# Altium integrated library Greenhouse.IntLib: 39 symbols
Pins are listed as number, name and electrical type; pins without a type are passive.

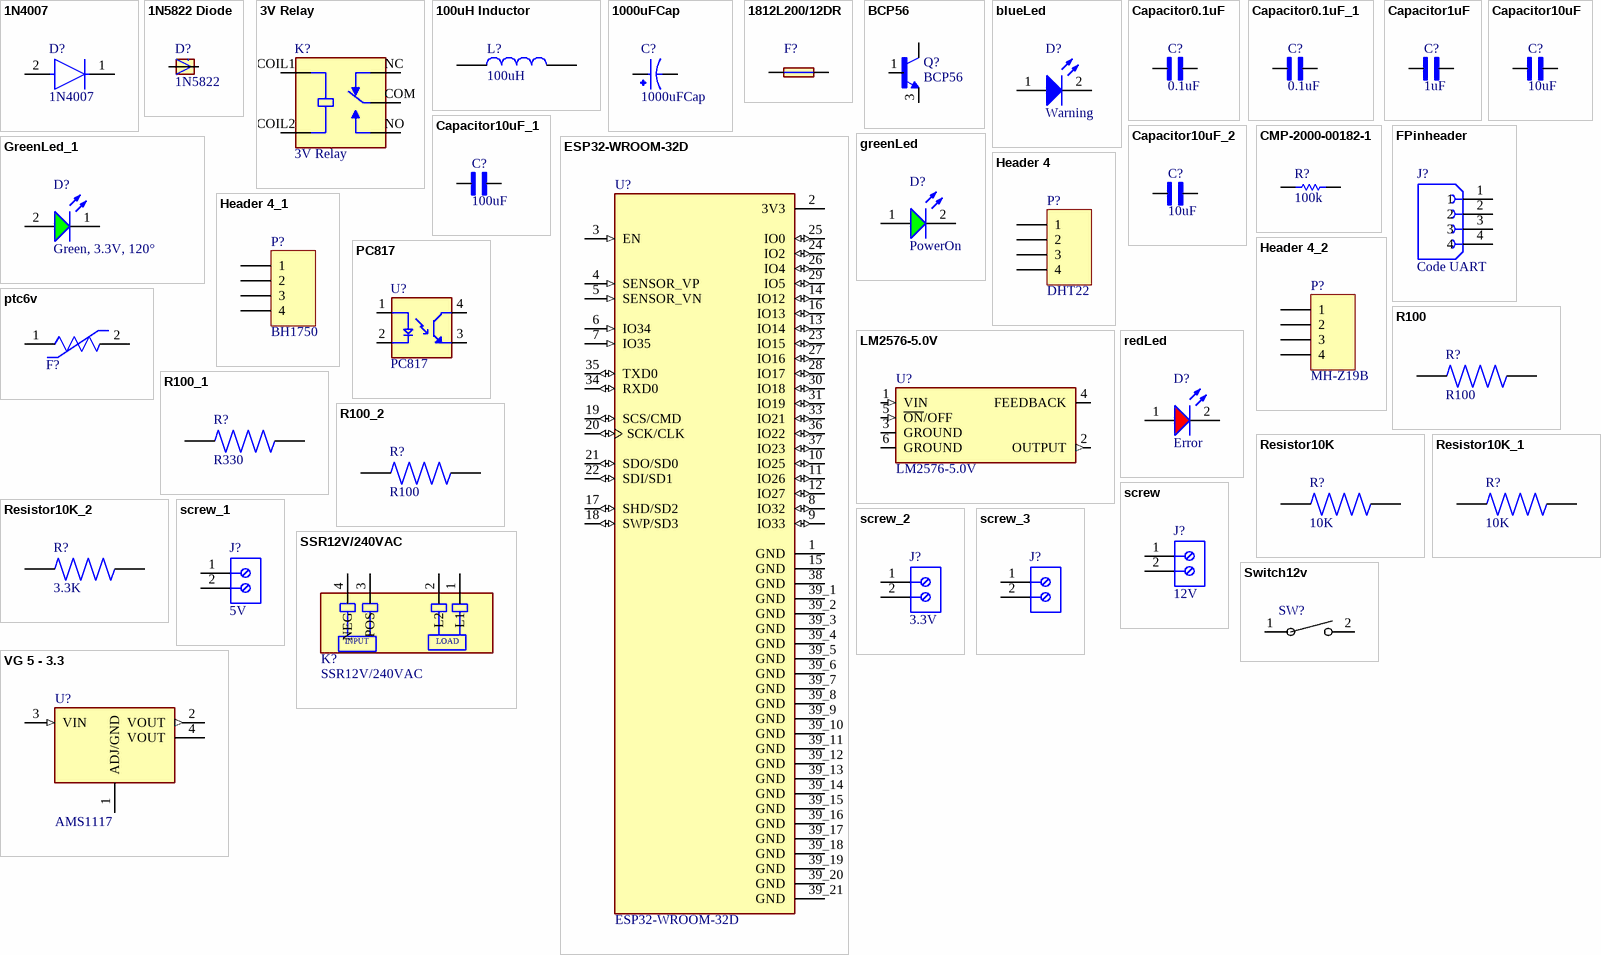
[diagram p0: symbols 1N4007 to VG 5 - 3.3]

## 1N4007
designator D?
Rectifier diode 1000 V 1 A DO-41, ,; Manufacturer: Diotec; Max Surge Forward Current: 27A; Forward Current: 1A; Max Junction Temp: +175°C; Reverse Voltage: 1000V; Value: 15pF; Peak Reverse Current: 5uA; Category: Diode; Temperature Range Low: -50°C; Automotive: No; Temperature: -50°C to +175°C; Lead Free: Yes; ComponentLink2Description: Datasheet; Max Repetitive Reverse Voltage: 1000V; ComponentLink2URL: https://datasheet.octopart.com/1N4007-Diotec-datasheet-62346875.pdf; Manufacturer Part Number: 1N4007; Device Class L3: Rectifier Diodes; Height: 2.8mm; Octopart: https://octopart.com/1n4007-diotec-4040411; Package: 1N4007; Temperature Range High: +175°C; Device Class L1: Discrete Semiconductors; Device Class L2: Diodes; RoHS: TRUE; Capacitance: 15pF; Ipc Land Pattern Name: DIOAD888W100L520D280
footprint 1N4007
pins: 1 C, 2 A

## 1N5822 Diode
designator D?, comment 1N5822
Schottky, DO-201, 40V, 3A, 150Â°C; MF: Diotec Semiconductor; SnapEDA_Link: https://www.snapeda.com/parts/1N5822/Diotec/view-part/?ref=snap; Package: DO-201 Diotec; Value: *; MP: 1N5822; Check_prices: https://www.snapeda.com/parts/1N5822/Diotec/view-part/?ref=eda
footprint 1N5822Diode
pins: A, C

## 3V Relay
designator K?
Relays General Purpose Non Latching 3VDC SPDT 10A (250VAC) Max 5PIN; MF: Songle Relay; MP: SRD-03VDC-SL-C; SnapEDA_Link: https://www.snapeda.com/parts/SRD-03VDC-SL-C/Songle+Relay/view-part/?ref=snap; Package: NON STANDARD-5 Songle Relay; Value: *; Check_prices: https://www.snapeda.com/parts/SRD-03VDC-SL-C/Songle+Relay/view-part/?ref=eda
footprint 3V Relay
pins: COIL1, COIL2, COM, NC, NO

## 100uH Inductor
designator L?, comment 100uH
Inductor with Inductance 100uH Tol.+/-20% Package 1212 (3030); MF: Murata; MP: LQH3NPH101MMEL; Availability: In Stock; SnapEDA_Link: https://www.snapeda.com/parts/LQH3NPH101MMEL/Murata/view-part/?ref=snap; Price: None; Check_prices: https://www.snapeda.com/parts/LQH3NPH101MMEL/Murata/view-part/?ref=eda; Package: 1212 Murata; Value: *; Purchase-URL: https://pricing.snapeda.com/search/part/LQH3NPH101MMEL/?ref=eda
footprint 100uH Inductor
pins: 1, 2

## 1000uFCap
designator C?
CAP ALUM 1000UF 20% 10V SMD; MP: EEE-FN1A102P; MF: Panasonic Electronic Components; Package: RADIAL-2 Panasonic; Availability: In Stock; Price: None; Check_prices: https://www.snapeda.com/parts/EEE-FN1A102P/Panasonic/view-part/6178528/?ref=eda; Purchase-URL: https://pricing.snapeda.com/search/part/EEE-FN1A102P/?ref=eda; Value: *; SnapEDA_Link: https://www.snapeda.com/parts/EEE-FN1A102P/Panasonic/view-part/6178528/?ref=snap
footprint 1000uFCap
pins: 1, 2

## 1812L200/12DR
designator F?  (value not drawn)
Polymeric PTC Resettable Fuse 12V 2A Ih Surface Mount 1812 (4532 Metric), Concave; MF: Littelfuse Inc.; Mouser-Purchase-URL: https://snapeda.com/shop?store=Mouser&id=1314296; Value: *; Availability: Warning; Price: None; SnapEDA_Link: https://www.snapeda.com/parts/1812L200/12DR/Littelfuse%20Inc./view-part/1314296/?ref=snap; Package: 1812 Littelfuse; MP: 1812L200/12DR
footprint FUSE_1812L200/12DR
pins: 1, 2

## BCP56
designator Q?
Bipolar (BJT) Transistor NPN 80 V 1 A 130MHz 1.5 W Surface Mount SOT-223 (TO-261); MF: ON Semiconductor; SnapEDA_Link: https://www.snapeda.com/parts/BCP56/Onsemi/view-part/?ref=snap; Package: TO-261-4 ON Semiconductor / Fairchild; Value: *; MP: BCP56; Check_prices: https://www.snapeda.com/parts/BCP56/Onsemi/view-part/?ref=eda
footprint BCP56
pins: 1 B, 2 C, 3 E, 4 C

## blueLed
designator D?, comment Warning
NexarPartId: 29717812; Test Current: 20mA; Forward Voltage: 3.2V; Wavelength: 470nm; Lens Size: 5mm; Lens Style: Circular, Diffused, Round; Forward Current: 100mA; Peak Wavelength: 465nm; Viewing Angle: 40°; Luminous Intensity: 500mcd; Max Reverse Voltage (DC): 5V; Color: Blue; Case/Package: Radial; Width: 5mm; Mount: Through Hole; Min Operating Temperature: -40°C; Length: 5mm; Height: 8.6mm; Max Operating Temperature: 85°C; Packaging: Bulk; RoHS: Compliant; REACH SVHC: Unknown; Dominant Wavelength: 470nm
footprint blueLed (THT Mono-color Round Color LED, 2-leads)
pins: 1 A, 2 K

## Capacitor0.1uF
designator C?, comment 0.1uF
SMD Capacitor X7S(EIA) with Capacitance: 0.10uF Tol. 10%. Rated Voltage: 16Vdc; MF: Murata; MP: GRM033C71C104KE14D; SnapEDA_Link: https://www.snapeda.com/parts/GRM033C71C104KE14D/Murata/view-part/?ref=snap; Package: 0603 Murata; Value: *; Check_prices: https://www.snapeda.com/parts/GRM033C71C104KE14D/Murata/view-part/?ref=eda
footprint Capacitor0.1uF
pins: 1, 2

## Capacitor0.1uF_1
designator C?, comment 0.1uF
SMD Capacitor X7S(EIA) with Capacitance: 0.10uF Tol. 10%. Rated Voltage: 16Vdc; MF: Murata; MP: GRM033C71C104KE14D; SnapEDA_Link: https://www.snapeda.com/parts/GRM033C71C104KE14D/Murata/view-part/?ref=snap; Package: 0603 Murata; Value: 0.1uF; Check_prices: https://www.snapeda.com/parts/GRM033C71C104KE14D/Murata/view-part/?ref=eda
footprint Capacitor0.1uF
pins: 1, 2

## Capacitor1uF
designator C?, comment 1uF
SMD capacitor X5R(EIA) with capacitance 1.0uF Tol.20%. Rated voltage 10Vdc 85C; MF: Murata; MP: GRM033R61A105ME44J; SnapEDA_Link: https://www.snapeda.com/parts/GRM033R61A105ME44J/Murata/view-part/?ref=snap; Package: 1005 Murata; Value: *; Check_prices: https://www.snapeda.com/parts/GRM033R61A105ME44J/Murata/view-part/?ref=eda
footprint CAPACITOR1UF
pins: 1, 2

## Capacitor10uF
designator C?, comment 10uF
SMD Capacitor X5R(EIA) with Capacitance: 10uF Tol. 10%. Rated Voltage: 10Vdc; MF: Murata; MP: GRM21BR61A106KE19K; SnapEDA_Link: https://www.snapeda.com/parts/GRM21BR61A106KE19K/Murata/view-part/?ref=snap; Package: 805-2 Murata; Value: *; Check_prices: https://www.snapeda.com/parts/GRM21BR61A106KE19K/Murata/view-part/?ref=eda
footprint Capacitor10uF
pins: 1, 2

## Capacitor10uF_1
designator C?, comment 100uF
SMD Capacitor X5R(EIA) with Capacitance: 10uF Tol. 10%. Rated Voltage: 10Vdc; MF: Murata; MP: GRM21BR61A106KE19K; SnapEDA_Link: https://www.snapeda.com/parts/GRM21BR61A106KE19K/Murata/view-part/?ref=snap; Package: 805-2 Murata; Value: *; Check_prices: https://www.snapeda.com/parts/GRM21BR61A106KE19K/Murata/view-part/?ref=eda
footprint Capacitor10uF
pins: 1, 2

## Capacitor10uF_2
designator C?, comment 10uF
SMD Capacitor X5R(EIA) with Capacitance: 10uF Tol. 10%. Rated Voltage: 10Vdc; MF: Murata; MP: GRM21BR61A106KE19K; SnapEDA_Link: https://www.snapeda.com/parts/GRM21BR61A106KE19K/Murata/view-part/?ref=snap; Package: 805-2 Murata; Value: 10uF; Check_prices: https://www.snapeda.com/parts/GRM21BR61A106KE19K/Murata/view-part/?ref=eda
footprint Capacitor10uF
pins: 1, 2

## CMP-2000-00182-1
designator R?, comment 100k
Part Number: ERJ-3EKF1003V; Manufacturer: Panasonic; Manufacturer Part Number: ERJ-3EKF1003V
footprint RESC1608X55X30ML15T15 (Chip Resistor, 2-Leads, Body 1.60x0.80mm, IPC Low Density)
footprint RESC1608X55X30NL15T15 (Chip Resistor, 2-Leads, Body 1.60x0.80mm, IPC Medium Density)
footprint RESC1608X55X30LL15T15 (Chip Resistor, 2-Leads, Body 1.60x0.80mm, IPC High Density)
pins: 1, 2
1 alternate drawing of the same symbol

## ESP32-WROOM-32D
designator U?
Bluetooth, WiFi 802.11b/g/n, Bluetooth v4.2 +EDR, Class 1, 2 and 3 Transceiver Module 2.4GHz ~ 2.5GHz Integrated; MF: Espressif Systems; SnapEDA_Link: https://www.snapeda.com/parts/ESP32-WROOM-32D/Espressif+Systems/view-part/?ref=snap; Package: Non Standard Espressif Systems; Value: *; MP: ESP32-WROOM-32D; Check_prices: https://www.snapeda.com/parts/ESP32-WROOM-32D/Espressif+Systems/view-part/?ref=eda
footprint ESP32-WROOM-32D
pins: 1 GND (power), 2 3V3 (power), 3 EN (in), 4 SENSOR_VP (in), 5 SENSOR_VN (in), 6 IO34 (in), 7 IO35 (in), 8 IO32 (io), 9 IO33 (io), 10 IO25 (io), 11 IO26 (io), 12 IO27 (io), 13 IO14 (io), 14 IO12 (io), 15 GND (power), 16 IO13 (io), 17 SHD/SD2 (io), 18 SWP/SD3 (io), 19 SCS/CMD (io), 20 SCK/CLK (io), 21 SDO/SD0 (io), 22 SDI/SD1 (io), 23 IO15 (io), 24 IO2 (io), 25 IO0 (io), 26 IO4 (io), 27 IO16 (io), 28 IO17 (io), 29 IO5 (io), 30 IO18 (io), 31 IO19 (io), 33 IO21 (io), 34 RXD0 (io), 35 TXD0 (io), 36 IO22 (io), 37 IO23 (io), 38 GND (power), 39_1 GND (power), 39_2 GND (power), 39_3 GND (power), 39_4 GND (power), 39_5 GND (power), 39_6 GND (power), 39_7 GND (power), 39_8 GND (power), 39_9 GND (power), 39_10 GND (power), 39_11 GND (power), 39_12 GND (power), 39_13 GND (power), 39_14 GND (power), 39_15 GND (power), 39_16 GND (power), 39_17 GND (power), 39_18 GND (power), 39_19 GND (power), 39_20 GND (power), 39_21 GND (power)

## FPinheader
designator J?, comment Code UART
4 Position Header Connector 0.100 (2.54mm) Through Hole Tin; MF: Sullins Connector; MP: PPTC041LFBN-RC; SnapEDA_Link: https://www.snapeda.com/parts/PPTC041LFBN-RC/Sullins/view-part/?ref=snap; Package: None; Value: *; Check_prices: https://www.snapeda.com/parts/PPTC041LFBN-RC/Sullins/view-part/?ref=eda
footprint Fpinheader
pins: 1, 2, 3, 4

## greenLed
designator D?, comment PowerOn
NexarPartId: 29717805; Peak Wavelength: 560nm; Lens Style: Circular, Diffused, Round; Forward Voltage: 2.2V; Lens Size: 3mm; Wavelength: 568nm; Test Current: 20mA; Max Reverse Voltage (DC): 5V; Color: Green; Forward Current: 100mA; Viewing Angle: 60°; Luminous Intensity: 30mcd; Case/Package: Radial; RoHS: Compliant; Packaging: Bulk; Max Operating Temperature: 85°C; Lead Free: Lead Free; Min Operating Temperature: -40°C; Length: 3mm; Width: 3mm; REACH SVHC: Unknown; Mount: Through Hole; Height: 5.3mm; Dominant Wavelength: 568nm
footprint greenLed (THT Mono-color Round Color LED, 2-leads)
pins: 1 A, 2 K

## GreenLed_1
designator D?, comment Green, 3.3V, 120°
WL-SMCC Mono-color Chip LED Compact, SMT, size 0402, Green, 3.3V, 120°; Manufacturer Part Number: 150040GS73220; Manufacturer: Wurth Elektronik; Case/Size Code: 0402; Chip Technology: InGaN; Dominant Wavelength: 525nm; Luminous Intensity: 750mcd; Peak Wavelength: 520nm; Category: Signal LEDs; Match Code: WL-SMCC; ComponentLink1Description: Website Link; ComponentLink1URL: https://www.we-online.com/redexpert/article/150040GS73220?ad; ComponentLink2Description: Datasheet Link; ComponentLink2URL: https://www.we-online.com/redexpert/spec/150040GS73220?ad; Mount: Surface Mount; Operating Temperature Max: 85°C; Operating Temperature Min: -40°C; Packaging: Tape and Reel; Length: 1mm; Width: 0.5mm; Height: 0.25mm; Emitting Color: Green; Forward Voltage: 3.3V; Viewing Angle: 120°
footprint newgreenled (SMD Mono-color Chip LED Compact, body 1.00 x 0.50 mm)
pins: 1 K, 2 A

## Header 4
designator P?, comment DHT22
Header, 4-Pin; LatestRevisionDate: 17-Jul-2002; LatestRevisionNote: Re-released for DXP Platform.; Publisher: Altium Limited
footprint HDR1X4 (Connector; Header; 4 Position)
signal-integrity model Connector
pins: 1, 2, 3, 4

## Header 4_1
designator P?, comment BH1750
Header, 4-Pin; LatestRevisionDate: 17-Jul-2002; LatestRevisionNote: Re-released for DXP Platform.; Publisher: Altium Limited
footprint HDR1X4 (Connector; Header; 4 Position)
signal-integrity model Connector
pins: 1, 2, 3, 4

## Header 4_2
designator P?, comment MH-Z19B
Header, 4-Pin; LatestRevisionDate: 17-Jul-2002; LatestRevisionNote: Re-released for DXP Platform.; Publisher: Altium Limited
footprint HDR1X4 (Connector; Header; 4 Position)
signal-integrity model Connector
pins: 1, 2, 3, 4

## LM2576-5.0V
designator U?
Buck Switching Regulator IC Positive Fixed 5V 1 Output 3A TO-263-6, D2PAK (5 Leads + Tab), TO-263BA; MF: Microchip; MP: LM2576-5.0WU; SnapEDA_Link: https://www.snapeda.com/parts/LM2576-5.0WU/Microchip/view-part/?ref=snap; Package: TO-263-5 Micrel; Value: *; Check_prices: https://www.snapeda.com/parts/LM2576-5.0WU/Microchip/view-part/?ref=eda
footprint LM2576-5V
pins: 1 VIN (in), 2 OUTPUT (out), 3 GROUND (power), 4 FEEDBACK (io), 5 ~{ON}/OFF (in), 6 GROUND (power)

## PC817
designator U?
Optocoupler DC-IN 1-CH Transistor DC-OUT 4-Pin DIP SMD T/R; MF: Sharp Microelectronics; MP: PC817X2NIP1B; SnapEDA_Link: https://www.snapeda.com/parts/PC817X2NIP1B/Sharp+Microelectronics/view-part/?ref=snap; Package: SMD-4 Sharp Microelectronics; Value: *; Check_prices: https://www.snapeda.com/parts/PC817X2NIP1B/Sharp+Microelectronics/view-part/?ref=eda
footprint PC817
pins: 1 A, 2 C, 3 ET, 4 CT

## ptc6v
designator F?, comment 0ZCK0075FF2E  (value not drawn)
PTC RESET FUSE 6V 750MA 0805; Time to Trip: 0.2s; Trip Current: 1.5A; Max Current Rating: 40A; Hold Current: 750mA; Case Code (Metric): 2012; Packaging: Tape and Reel; Lead Free: Lead Free; Package Quantity: 1; Case Code (Imperial): 0805; Case/Package: 0805
footprint ptc6v
pins: 1, 2

## R100
designator R?
Res Thin Film 0402 100 Ohm 0.5% 0.063W(1/16W) Â±25ppm/C Molded SMD Paper T/R; Value: 100; MF: Stackpole Electronics Inc; MP: RNCF0402DTE100R; SnapEDA_Link: https://www.snapeda.com/parts/RNCF0402DTE100R/Stackpole+Electronics/view-part/?ref=snap; Package: 1005 Stackpole; Check_prices: https://www.snapeda.com/parts/RNCF0402DTE100R/Stackpole+Electronics/view-part/?ref=eda
footprint RESC1005X35N
footprint R100
pins: 1, 2

## R100_1
designator R?, comment R330
Res Thin Film 0402 100 Ohm 0.5% 0.063W(1/16W) Â±25ppm/C Molded SMD Paper T/R; MF: Stackpole Electronics Inc; MP: RNCF0402DTE100R; SnapEDA_Link: https://www.snapeda.com/parts/RNCF0402DTE100R/Stackpole+Electronics/view-part/?ref=snap; Package: 1005 Stackpole; Value: *; Check_prices: https://www.snapeda.com/parts/RNCF0402DTE100R/Stackpole+Electronics/view-part/?ref=eda
footprint R100
pins: 1, 2

## R100_2
designator R?, comment R100
Res Thin Film 0402 100 Ohm 0.5% 0.063W(1/16W) Â±25ppm/C Molded SMD Paper T/R; MF: Stackpole Electronics Inc; MP: RNCF0402DTE100R; SnapEDA_Link: https://www.snapeda.com/parts/RNCF0402DTE100R/Stackpole+Electronics/view-part/?ref=snap; Package: 1005 Stackpole; Value: *; Check_prices: https://www.snapeda.com/parts/RNCF0402DTE100R/Stackpole+Electronics/view-part/?ref=eda
footprint R100
pins: 1, 2

## redLed
designator D?, comment Error
NexarPartId: 29717813; Lens Style: Circular, Diffused, Round; Lens Size: 5mm; Forward Voltage: 2.1V; Peak Wavelength: 650nm; Forward Current: 100mA; Viewing Angle: 60°; Color: Red; Wavelength: 630nm; Test Current: 20mA; Dominant Wavelength: 645nm; Luminous Intensity: 30mcd; Max Reverse Voltage (DC): 5V; Height: 8.6mm; Length: 5mm; Min Operating Temperature: -40°C; Max Operating Temperature: 85°C; Packaging: Bulk; REACH SVHC: Unknown; Case/Package: Radial; RoHS: Compliant; Width: 5mm; Mount: Through Hole
footprint redLed (THT Mono-color Round Color LED, 2-leads)
pins: 1 A, 2 K

## Resistor10K
designator R?, comment 10K
Res Thick Film 0201 10K Ohm 1% 1/20W 200ppm/C Molded SMD SMD Pressed Carrier T/R; MF: Panasonic; MP: ERJ-U01F1002C; Price: None; SnapEDA_Link: https://www.snapeda.com/parts/ERJ-U01F1002C/Panasonic/view-part/5830665/?ref=snap; Value: *; Check_prices: https://www.snapeda.com/parts/ERJ-U01F1002C/Panasonic/view-part/5830665/?ref=eda; Package: 0603-2 Panasonic
footprint Resistor10K
pins: 1, 2

## Resistor10K_1
designator R?, comment 10K
Res Thick Film 0201 10K Ohm 1% 1/20W 200ppm/C Molded SMD SMD Pressed Carrier T/R; MF: Panasonic; MP: ERJ-U01F1002C; Price: None; SnapEDA_Link: https://www.snapeda.com/parts/ERJ-U01F1002C/Panasonic/view-part/5830665/?ref=snap; Value: 10k; Check_prices: https://www.snapeda.com/parts/ERJ-U01F1002C/Panasonic/view-part/5830665/?ref=eda; Package: 0603-2 Panasonic
footprint Resistor10K
pins: 1, 2

## Resistor10K_2
designator R?, comment 3.3K
Res Thick Film 0201 10K Ohm 1% 1/20W 200ppm/C Molded SMD SMD Pressed Carrier T/R; MF: Panasonic; MP: ERJ-U01F1002C; Price: None; SnapEDA_Link: https://www.snapeda.com/parts/ERJ-U01F1002C/Panasonic/view-part/5830665/?ref=snap; Value: *; Check_prices: https://www.snapeda.com/parts/ERJ-U01F1002C/Panasonic/view-part/5830665/?ref=eda; Package: 0603-2 Panasonic
footprint Resistor10K
pins: 1, 2

## screw
designator J?, comment 12V
NexarPartId: 78871135; Voltage Rating: 300V; Number of Contacts: 2; Current Rating: 16A; Lead Pitch: 5mm; Height: 11.6mm; Packaging: Box; RoHS: Non-Compliant; Contact Material: Nickel, Tin; Max Operating Temperature: 120°C; Number of Pins: 2; Min Operating Temperature: -30°C; Number of Rows: 1
footprint screw (Horizontal Cable Entry with Pressure Clamp, pitch 5mm, 02p)
pins: 1, 2

## screw_1
designator J?, comment 5V
NexarPartId: 78871135; Voltage Rating: 300V; Number of Contacts: 2; Current Rating: 16A; Lead Pitch: 5mm; Height: 11.6mm; Packaging: Box; RoHS: Non-Compliant; Contact Material: Nickel, Tin; Max Operating Temperature: 120°C; Number of Pins: 2; Min Operating Temperature: -30°C; Number of Rows: 1
footprint screw (Horizontal Cable Entry with Pressure Clamp, pitch 5mm, 02p)
pins: 1, 2

## screw_2
designator J?, comment 3.3V
NexarPartId: 78871135; Voltage Rating: 300V; Number of Contacts: 2; Current Rating: 16A; Lead Pitch: 5mm; Height: 11.6mm; Packaging: Box; RoHS: Non-Compliant; Contact Material: Nickel, Tin; Max Operating Temperature: 120°C; Number of Pins: 2; Min Operating Temperature: -30°C; Number of Rows: 1
footprint screw (Horizontal Cable Entry with Pressure Clamp, pitch 5mm, 02p)
pins: 1, 2

## screw_3
designator J?
NexarPartId: 78871135; Voltage Rating: 300V; Number of Contacts: 2; Current Rating: 16A; Lead Pitch: 5mm; Height: 11.6mm; Packaging: Box; RoHS: Non-Compliant; Contact Material: Nickel, Tin; Max Operating Temperature: 120°C; Number of Pins: 2; Min Operating Temperature: -30°C; Number of Rows: 1
footprint screw (Horizontal Cable Entry with Pressure Clamp, pitch 5mm, 02p)
pins: 1, 2

## SSR12V/240VAC
designator K?
Solid State SPST-NO (1 Form A) 4-SIP; MF: Omron Automation; MP: G3MB-202P DC12; SnapEDA_Link: https://www.snapeda.com/parts/G3MB-202P%20DC12/Omron/view-part/?ref=snap; Package: SIP-4 Omron Automation; Value: *; Check_prices: https://www.snapeda.com/parts/G3MB-202P%20DC12/Omron/view-part/?ref=eda
footprint SSR12V/240VAC
pins: 1 L1 (power), 2 L2 (power), 3 POS (power), 4 NEG (power)
text: INPUT; LOAD

## Switch12v
designator SW?, comment PTS636 SM25F SMTR LFS  (value not drawn)
Description; Manufacturer_Name: C&K Components; Copyright: Copyright (C) 2025 Ultra Librarian. All rights reserved.; Manufacturer_Part_Number: PTS636 SM25F SMTR LFS
footprint Switch12v
pins: 1, 2

## VG 5 - 3.3
designator U?, comment AMS1117
1A LOW DROPOUT VOLTAGE REGULATOR SOT-223; MF: Advanced Monolithic Systems; SnapEDA_Link: https://www.snapeda.com/parts/AMS1117/Advanced+Monolithic+Systems/view-part/?ref=snap; Package: SOT-223 Seeed Technology; Value: *; MP: AMS1117; Check_prices: https://www.snapeda.com/parts/AMS1117/Advanced+Monolithic+Systems/view-part/?ref=eda
footprint VG 5 - 3.3
pins: 1 ADJ/GND (power), 2 VOUT (out), 3 VIN (in), 4 VOUT